# Altium schematic symbol library LIB.SCHLIB: 13 symbols
Pins are listed as number, name and electrical type; pins without a type are passive.

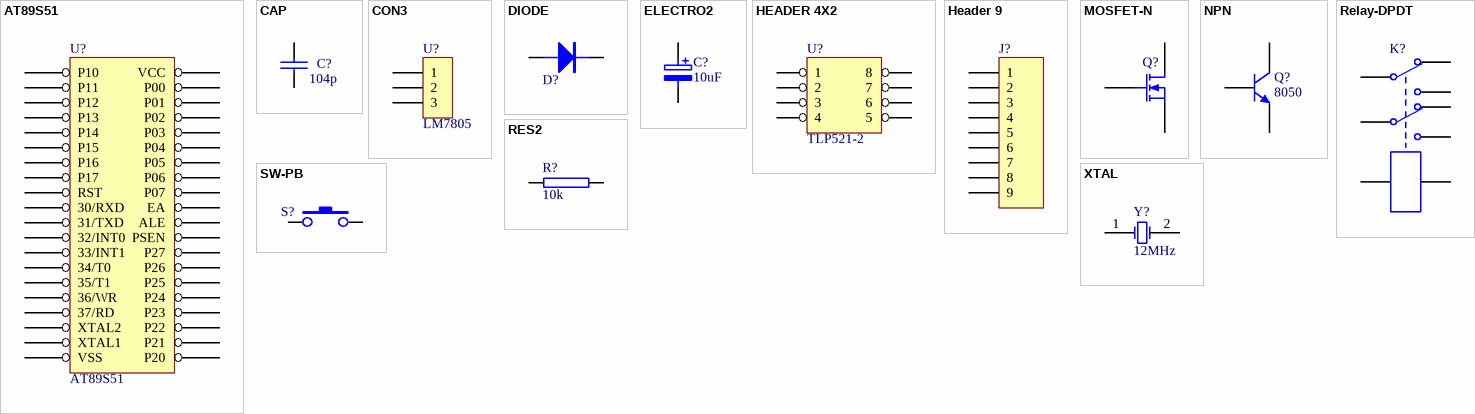
[diagram p0: symbols AT89S51 to XTAL]

## AT89S51
designator U?
footprint AT89S51
pins: 1 P10, 2 P11, 3 P12, 4 P13, 5 P14, 6 P15, 7 P16, 8 P17, 9 RST, 10 30/RXD, 11 31/TXD, 12 32/INT0, 13 33/INT1, 14 34/T0, 15 35/T1, 16 36/WR, 17 37/RD, 18 XTAL2, 19 XTAL1, 20 VSS, 21 P20, 22 P21, 23 P22, 24 P23, 25 P24, 26 P25, 27 P26, 28 P27, 29 PSEN, 30 ALE, 31 EA, 32 P07, 33 P06, 34 P05, 35 P04, 36 P03, 37 P02, 38 P01, 39 P00, 40 VCC

## CAP
designator C?, comment 104p
Capacitor
footprint RAD-0.1
pins: 1, 2

## CON3
designator U?, comment LM7805
Connector
footprint 78XX
pins: 1, 2, 3

## DIODE
designator D?  (value not drawn)
footprint DIODE0.4
pins: 1 A, 2 K

## ELECTRO2
designator C?, comment 10uF
Electrolytic Capacitor
footprint 10UF
pins: 1, 2

## HEADER 4X2
designator U?, comment TLP521-2
footprint DIP8
pins: 1, 2, 3, 4, 5, 6, 7, 8

## Header 9
designator J?  (value not drawn)
Header, 9-Pin; LatestRevisionDate: 17-Jul-2002; LatestRevisionNote: Re-released for DXP Platform.; Publisher: Altium Limited
footprint HDR1X9 (Connector; Header; 9 Position)
signal-integrity model Connector
pins: 1, 2, 3, 4, 5, 6, 7, 8, 9

## MOSFET-N
designator Q?  (value not drawn)
N-Channel MOSFET; Published: 8-Jun-2000; LatestRevisionDate: 17-Jul-2002; LatestRevisionNote: Re-released for DXP Platform.; PackageVersion: 1995/1996; PackageReference: E3; Publisher: Altium Limited; PackageDescription: TO, Flat Index; 3 In-Line, Axial Leads; Body Dia. 4.6mm; Lead Dia. 0.5 mm (max)
footprint E3 (TO, Flat Index; 3 In-Line, Axial Leads; Body Dia. 4.6mm; Lead Dia. 0.5 mm (max))
simulation model NMOS (MOSFET-N)
pins: 1 D, 2 G, 3 S

## NPN
designator Q?, comment 8050
NPN Bipolar Transistor; Published: 8-Jun-2000; LatestRevisionDate: 17-Jul-2002; LatestRevisionNote: Re-released for DXP Platform.; PackageReference: TO-226-AA; Publisher: Altium Limited; PackageDescription: TO, Flat Index; 3 In-Line, Axial Leads; Body Dia. 4.8mm; Leads 0.55 x 0.51 mm (max); Code_JEDEC: TO-226-AA
footprint TO-226-AA (TO, Flat Index; 3 In-Line, Axial Leads; Body Dia. 4.8mm; Leads 0.55 x 0.51 mm (max))
simulation model NPN
signal-integrity model NPN
pins: 1 C, 2 B, 3 E

## Relay-DPDT
designator K?  (value not drawn)
Dual-Pole Dual-Throw Relay; Published: 24-Mar-1999; LatestRevisionDate: 17-Jul-2002; LatestRevisionNote: Re-released for DXP Platform.; PackageReference: DIP-P8; Publisher: Altium Limited; PackageDescription: Relay; 8 Leads
footprint DIP-P8 (Dual-Pole Dual-Throw Relay; 8 Leads)
simulation model DPDTRELAY (Spice Subcircuit)
pins: 1, 2, 3, 4, 5, 6, 7, 8

## RES2
designator R?, comment 10k
footprint RAD-0.1
pins: 1, 2

## SW-PB
designator S?  (value not drawn)
footprint SW4A
pins: 1, 2

## XTAL
designator Y?, comment 12MHz
Crystal Oscillator; Published: 8-Jun-2000; LatestRevisionDate: 17-Jul-2002; LatestRevisionNote: Re-released for DXP Platform.; PackageReference: R38; Publisher: Altium Limited; PackageDescription: Crystal, Thru-Hole; 2 Leads; Body 3.1 x 8.2 mm (Dia.xH)
footprint R38 (Crystal, Thru-Hole; 2 Leads; Body 3.1 x 8.2 mm (Dia.xH))
simulation model XTAL (Spice Subcircuit)
pins: 1 OSC1, 2 OSC2